# EAGLE library part CON-HDMI (library arducorder-mini)
HDMI Connector (FCI 10029449-001RLF)
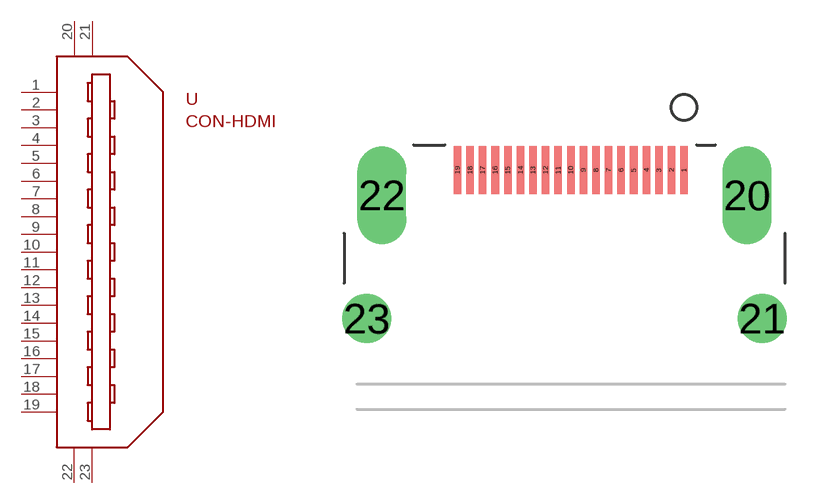
[diagram p15: symbol with the pads of FCI-HDMI-10029449-001RLF; footprint FCI-HDMI-10029449-001RLF]

Designator prefix -

## CON-HDMI  [FCI-HDMI-10029449-001RLF]
1  1
2  2
3  3
4  4
5  5
6  6
7  7
8  8
9  9
10  10
11  11
12  12
13  13
14  14
15  15
16  16
17  17
18  18
19  19
20  20
21  21
22  22
23  23

## Footprint FCI-HDMI-10029449-001RLF (pad centres in mm)
smd 0.3 x 1.9: 1 4.5,0; 2 4,0; 3 3.5,0; 4 3,0; 5 2.5,0; 6 2,0; 7 1.5,0; 8 1,0; 9 0.5,0; 10 0,0; 11 -0.5,0; 12 -1,0; 13 -1.5,0; 14 -2,0; 15 -2.5,0; 16 -3,0; 17 -3.5,0; 18 -4,0; 19 -4.5,0
drill 1.3 long: 20 7,-1; 22 -7.5,-1
drill 1.3: 21 7.6,-5.9; 23 -8.1,-5.9